# Altium schematic symbol library RES 360.0 1_8W - 1%.Schlib: 1 symbol
Pins are listed as number, name and electrical type; pins without a type are passive.

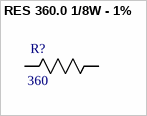
[diagram p0: symbol RES 360.0 1/8W - 1%]

## RES 360.0 1/8W - 1%
designator R?, comment 360
RES SMD 360 OHM 1% 1/8W 0805; Power (Watts): 0.125W; Package: 0805; Value: 360; Tolerance: 1%
footprint 0805
pins: 1 R1, 2 R2